# Altium schematic symbol library Nuvoton_Mini51DE Series.SchLib: 16 symbols
Pins are listed as number, name and electrical type; pins without a type are passive.

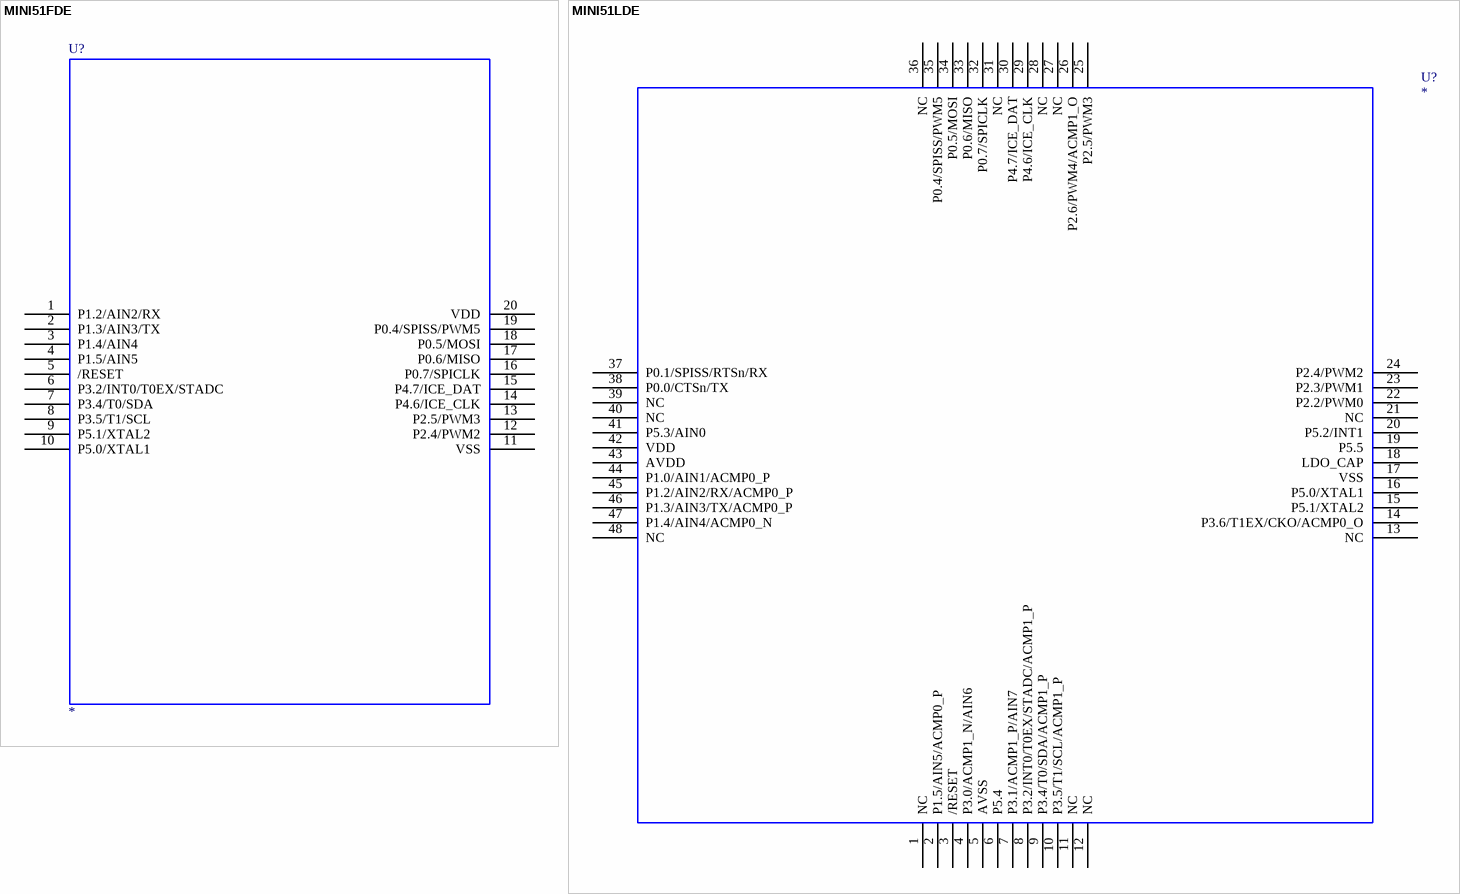
[diagram p0: symbols MINI51FDE to MINI51LDE]

## MINI51FDE
designator U?
MINI51FDE; OriginalSymbolOrigin: *; MINI51FDE: *; Value: *
footprint TSOP65P640X120-20N (TSOP, 20-Leads, Body 6.50x4.40mm, Pitch 0.65mm, IPC Medium Density)
footprint TSOP65P640X120-20M (TSOP, 20-Leads, Body 6.50x4.40mm, Pitch 0.65mm, IPC Low Density)
footprint TSOP65P640X120-20L (TSOP, 20-Leads, Body 6.50x4.40mm, Pitch 0.65mm, IPC High Density)
pins: 1 P1.2/AIN2/RX, 2 P1.3/AIN3/TX, 3 P1.4/AIN4, 4 P1.5/AIN5, 5 /RESET, 6 P3.2/INT0/T0EX/STADC, 7 P3.4/T0/SDA, 8 P3.5/T1/SCL, 9 P5.1/XTAL2, 10 P5.0/XTAL1, 11 VSS, 12 P2.4/PWM2, 13 P2.5/PWM3, 14 P4.6/ICE_CLK, 15 P4.7/ICE_DAT, 16 P0.7/SPICLK, 17 P0.6/MISO, 18 P0.5/MOSI, 19 P0.4/SPISS/PWM5, 20 VDD
2 alternate drawings of the same symbol

## MINI51LDE
designator U?
MINI51LDE; OriginalSymbolOrigin: *; MINI51LDE: *; Value: *
footprint TSQFP50P900X900X150-48N (TSQFP, 48-Leads, Body 7.00x7.00mm, Pitch 0.50mm, IPC Medium Density)
footprint TSQFP50P900X900X150-48M (TSQFP, 48-Leads, Body 7.00x7.00mm, Pitch 0.50mm, IPC Low Density)
footprint TSQFP50P900X900X150-48L (TSQFP, 48-Leads, Body 7.00x7.00mm, Pitch 0.50mm, IPC High Density)
pins: 1 NC, 2 P1.5/AIN5/ACMP0_P, 3 /RESET, 4 P3.0/ACMP1_N/AIN6, 5 AVSS, 6 P5.4, 7 P3.1/ACMP1_P/AIN7, 8 P3.2/INT0/T0EX/STADC/ACMP1_P, 9 P3.4/T0/SDA/ACMP1_P, 10 P3.5/T1/SCL/ACMP1_P, 11 NC, 12 NC, 13 NC, 14 P3.6/T1EX/CKO/ACMP0_O, 15 P5.1/XTAL2, 16 P5.0/XTAL1, 17 VSS, 18 LDO_CAP, 19 P5.5, 20 P5.2/INT1, 21 NC, 22 P2.2/PWM0, 23 P2.3/PWM1, 24 P2.4/PWM2, 25 P2.5/PWM3, 26 P2.6/PWM4/ACMP1_O, 27 NC, 28 NC, 29 P4.6/ICE_CLK, 30 P4.7/ICE_DAT, 31 NC, 32 P0.7/SPICLK, 33 P0.6/MISO, 34 P0.5/MOSI, 35 P0.4/SPISS/PWM5, 36 NC, 37 P0.1/SPISS/RTSn/RX, 38 P0.0/CTSn/TX, 39 NC, 40 NC, 41 P5.3/AIN0, 42 VDD, 43 AVDD, 44 P1.0/AIN1/ACMP0_P, 45 P1.2/AIN2/RX/ACMP0_P, 46 P1.3/AIN3/TX/ACMP0_P, 47 P1.4/AIN4/ACMP0_N, 48 NC
2 alternate drawings of the same symbol

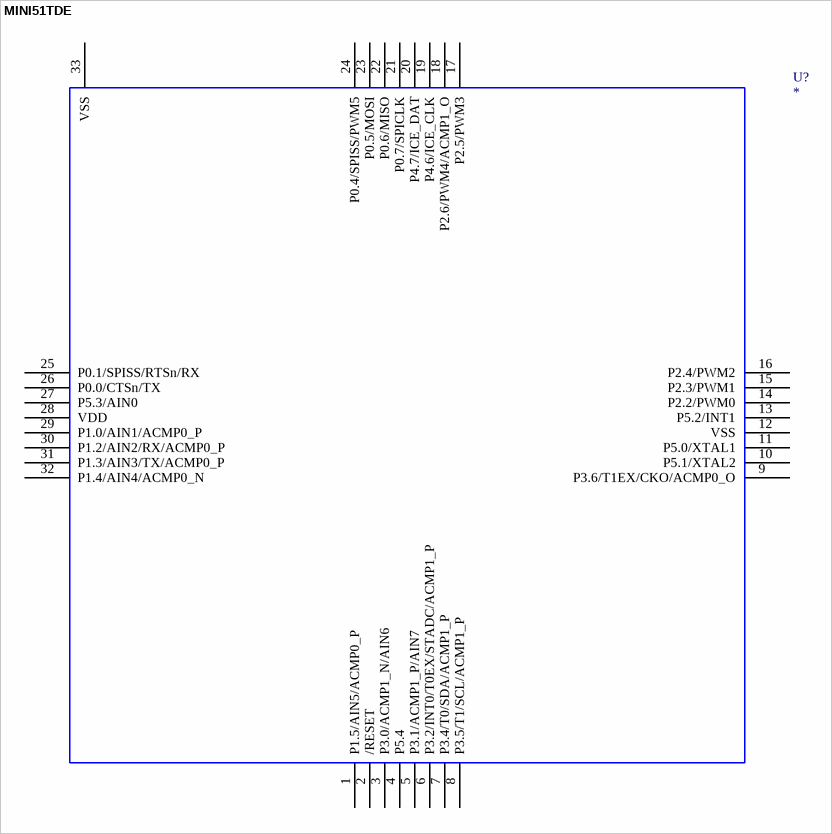
[diagram p1: symbol MINI51TDE]

## MINI51TDE
designator U?
MINI51TDE; OriginalSymbolOrigin: *; MINI51TDE: *; Value: *
footprint QFN40P400X400X80_HS-33N (QFN, 32-Leads, Body 4.00x4.00mm, Pitch 0.40mm, Thermal Pad 2.68x2.68mm, IPC Medium Density)
footprint QFN40P400X400X80_HS-33M (QFN, 32-Leads, Body 4.00x4.00mm, Pitch 0.40mm, Thermal Pad 2.68x2.68mm, IPC Low Density)
footprint QFN40P400X400X80_HS-33L (QFN, 32-Leads, Body 4.00x4.00mm, Pitch 0.40mm, Thermal Pad 2.68x2.68mm, IPC High Density)
pins: 1 P1.5/AIN5/ACMP0_P, 2 /RESET, 3 P3.0/ACMP1_N/AIN6, 4 P5.4, 5 P3.1/ACMP1_P/AIN7, 6 P3.2/INT0/T0EX/STADC/ACMP1_P, 7 P3.4/T0/SDA/ACMP1_P, 8 P3.5/T1/SCL/ACMP1_P, 9 P3.6/T1EX/CKO/ACMP0_O, 10 P5.1/XTAL2, 11 P5.0/XTAL1, 12 VSS, 13 P5.2/INT1, 14 P2.2/PWM0, 15 P2.3/PWM1, 16 P2.4/PWM2, 17 P2.5/PWM3, 18 P2.6/PWM4/ACMP1_O, 19 P4.6/ICE_CLK, 20 P4.7/ICE_DAT, 21 P0.7/SPICLK, 22 P0.6/MISO, 23 P0.5/MOSI, 24 P0.4/SPISS/PWM5, 25 P0.1/SPISS/RTSn/RX, 26 P0.0/CTSn/TX, 27 P5.3/AIN0, 28 VDD, 29 P1.0/AIN1/ACMP0_P, 30 P1.2/AIN2/RX/ACMP0_P, 31 P1.3/AIN3/TX/ACMP0_P, 32 P1.4/AIN4/ACMP0_N, 33 VSS
2 alternate drawings of the same symbol

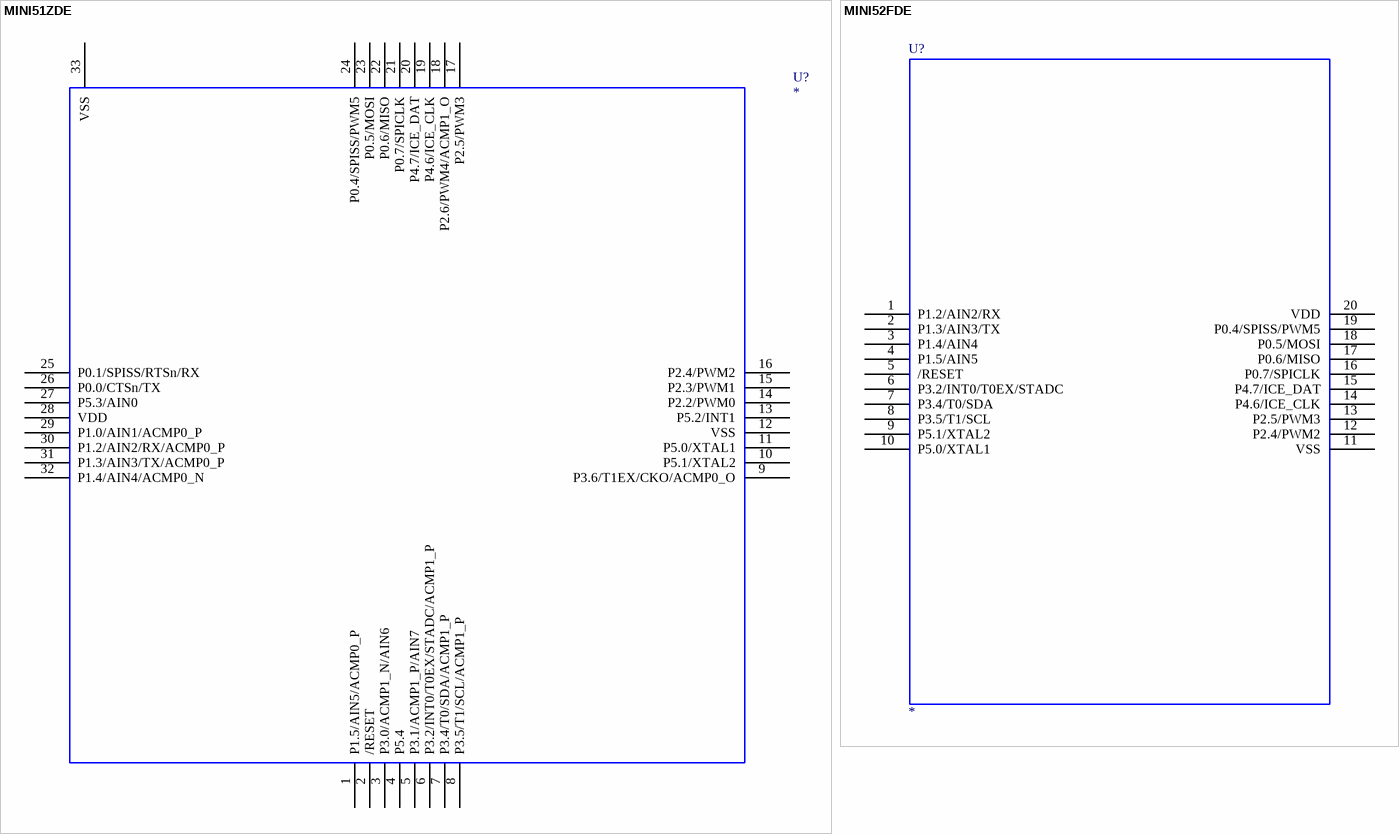
[diagram p2: symbols MINI51ZDE to MINI52FDE]

## MINI51ZDE
designator U?
MINI51ZDE; OriginalSymbolOrigin: *; MINI51ZDE: *; Value: *
footprint QFN50P500X500X80_HS-33N (QFN, 32-Leads, Body 5.00x5.00mm, Pitch 0.50mm, Thermal Pad 3.50x3.50mm, IPC Medium Density)
footprint QFN50P500X500X80_HS-33M (QFN, 32-Leads, Body 5.00x5.00mm, Pitch 0.50mm, Thermal Pad 3.50x3.50mm, IPC Low Density)
footprint QFN50P500X500X80_HS-33L (QFN, 32-Leads, Body 5.00x5.00mm, Pitch 0.50mm, Thermal Pad 3.50x3.50mm, IPC High Density)
pins: 1 P1.5/AIN5/ACMP0_P, 2 /RESET, 3 P3.0/ACMP1_N/AIN6, 4 P5.4, 5 P3.1/ACMP1_P/AIN7, 6 P3.2/INT0/T0EX/STADC/ACMP1_P, 7 P3.4/T0/SDA/ACMP1_P, 8 P3.5/T1/SCL/ACMP1_P, 9 P3.6/T1EX/CKO/ACMP0_O, 10 P5.1/XTAL2, 11 P5.0/XTAL1, 12 VSS, 13 P5.2/INT1, 14 P2.2/PWM0, 15 P2.3/PWM1, 16 P2.4/PWM2, 17 P2.5/PWM3, 18 P2.6/PWM4/ACMP1_O, 19 P4.6/ICE_CLK, 20 P4.7/ICE_DAT, 21 P0.7/SPICLK, 22 P0.6/MISO, 23 P0.5/MOSI, 24 P0.4/SPISS/PWM5, 25 P0.1/SPISS/RTSn/RX, 26 P0.0/CTSn/TX, 27 P5.3/AIN0, 28 VDD, 29 P1.0/AIN1/ACMP0_P, 30 P1.2/AIN2/RX/ACMP0_P, 31 P1.3/AIN3/TX/ACMP0_P, 32 P1.4/AIN4/ACMP0_N, 33 VSS
2 alternate drawings of the same symbol

## MINI52FDE
designator U?
MINI52FDE; OriginalSymbolOrigin: *; MINI52FDE: *; Value: *
footprint TSOP65P640X120-20N (TSOP, 20-Leads, Body 6.50x4.40mm, Pitch 0.65mm, IPC Medium Density)
footprint TSOP65P640X120-20M (TSOP, 20-Leads, Body 6.50x4.40mm, Pitch 0.65mm, IPC Low Density)
footprint TSOP65P640X120-20L (TSOP, 20-Leads, Body 6.50x4.40mm, Pitch 0.65mm, IPC High Density)
pins: 1 P1.2/AIN2/RX, 2 P1.3/AIN3/TX, 3 P1.4/AIN4, 4 P1.5/AIN5, 5 /RESET, 6 P3.2/INT0/T0EX/STADC, 7 P3.4/T0/SDA, 8 P3.5/T1/SCL, 9 P5.1/XTAL2, 10 P5.0/XTAL1, 11 VSS, 12 P2.4/PWM2, 13 P2.5/PWM3, 14 P4.6/ICE_CLK, 15 P4.7/ICE_DAT, 16 P0.7/SPICLK, 17 P0.6/MISO, 18 P0.5/MOSI, 19 P0.4/SPISS/PWM5, 20 VDD
2 alternate drawings of the same symbol

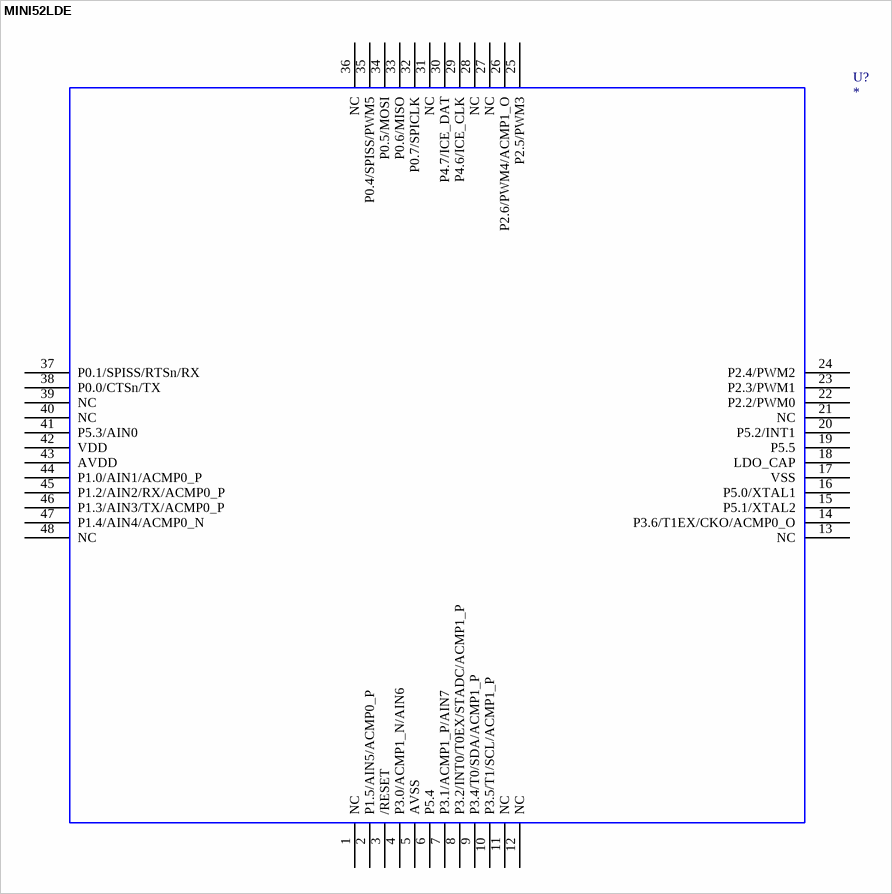
[diagram p3: symbol MINI52LDE]

## MINI52LDE
designator U?
MINI52LDE; OriginalSymbolOrigin: *; MINI52LDE: *; Value: *
footprint TSQFP50P900X900X150-48N (TSQFP, 48-Leads, Body 7.00x7.00mm, Pitch 0.50mm, IPC Medium Density)
footprint TSQFP50P900X900X150-48M (TSQFP, 48-Leads, Body 7.00x7.00mm, Pitch 0.50mm, IPC Low Density)
footprint TSQFP50P900X900X150-48L (TSQFP, 48-Leads, Body 7.00x7.00mm, Pitch 0.50mm, IPC High Density)
pins: 1 NC, 2 P1.5/AIN5/ACMP0_P, 3 /RESET, 4 P3.0/ACMP1_N/AIN6, 5 AVSS, 6 P5.4, 7 P3.1/ACMP1_P/AIN7, 8 P3.2/INT0/T0EX/STADC/ACMP1_P, 9 P3.4/T0/SDA/ACMP1_P, 10 P3.5/T1/SCL/ACMP1_P, 11 NC, 12 NC, 13 NC, 14 P3.6/T1EX/CKO/ACMP0_O, 15 P5.1/XTAL2, 16 P5.0/XTAL1, 17 VSS, 18 LDO_CAP, 19 P5.5, 20 P5.2/INT1, 21 NC, 22 P2.2/PWM0, 23 P2.3/PWM1, 24 P2.4/PWM2, 25 P2.5/PWM3, 26 P2.6/PWM4/ACMP1_O, 27 NC, 28 NC, 29 P4.6/ICE_CLK, 30 P4.7/ICE_DAT, 31 NC, 32 P0.7/SPICLK, 33 P0.6/MISO, 34 P0.5/MOSI, 35 P0.4/SPISS/PWM5, 36 NC, 37 P0.1/SPISS/RTSn/RX, 38 P0.0/CTSn/TX, 39 NC, 40 NC, 41 P5.3/AIN0, 42 VDD, 43 AVDD, 44 P1.0/AIN1/ACMP0_P, 45 P1.2/AIN2/RX/ACMP0_P, 46 P1.3/AIN3/TX/ACMP0_P, 47 P1.4/AIN4/ACMP0_N, 48 NC
2 alternate drawings of the same symbol

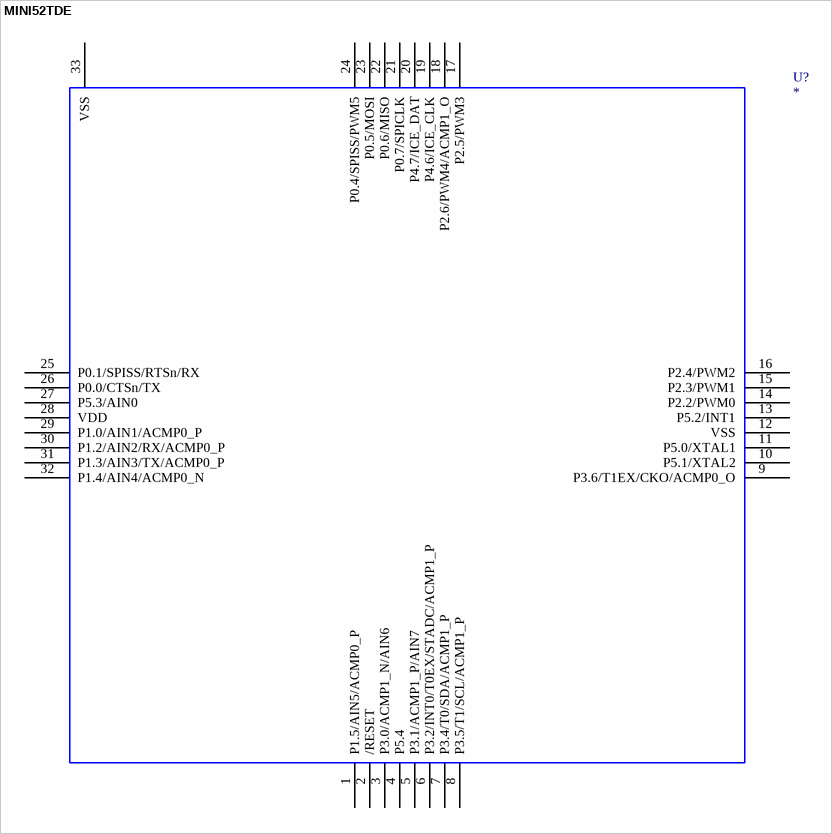
[diagram p4: symbol MINI52TDE]

## MINI52TDE
designator U?
MINI52TDE; OriginalSymbolOrigin: *; MINI52TDE: *; Value: *
footprint QFN40P400X400X80_HS-33N (QFN, 32-Leads, Body 4.00x4.00mm, Pitch 0.40mm, Thermal Pad 2.68x2.68mm, IPC Medium Density)
footprint QFN40P400X400X80_HS-33M (QFN, 32-Leads, Body 4.00x4.00mm, Pitch 0.40mm, Thermal Pad 2.68x2.68mm, IPC Low Density)
footprint QFN40P400X400X80_HS-33L (QFN, 32-Leads, Body 4.00x4.00mm, Pitch 0.40mm, Thermal Pad 2.68x2.68mm, IPC High Density)
pins: 1 P1.5/AIN5/ACMP0_P, 2 /RESET, 3 P3.0/ACMP1_N/AIN6, 4 P5.4, 5 P3.1/ACMP1_P/AIN7, 6 P3.2/INT0/T0EX/STADC/ACMP1_P, 7 P3.4/T0/SDA/ACMP1_P, 8 P3.5/T1/SCL/ACMP1_P, 9 P3.6/T1EX/CKO/ACMP0_O, 10 P5.1/XTAL2, 11 P5.0/XTAL1, 12 VSS, 13 P5.2/INT1, 14 P2.2/PWM0, 15 P2.3/PWM1, 16 P2.4/PWM2, 17 P2.5/PWM3, 18 P2.6/PWM4/ACMP1_O, 19 P4.6/ICE_CLK, 20 P4.7/ICE_DAT, 21 P0.7/SPICLK, 22 P0.6/MISO, 23 P0.5/MOSI, 24 P0.4/SPISS/PWM5, 25 P0.1/SPISS/RTSn/RX, 26 P0.0/CTSn/TX, 27 P5.3/AIN0, 28 VDD, 29 P1.0/AIN1/ACMP0_P, 30 P1.2/AIN2/RX/ACMP0_P, 31 P1.3/AIN3/TX/ACMP0_P, 32 P1.4/AIN4/ACMP0_N, 33 VSS
2 alternate drawings of the same symbol

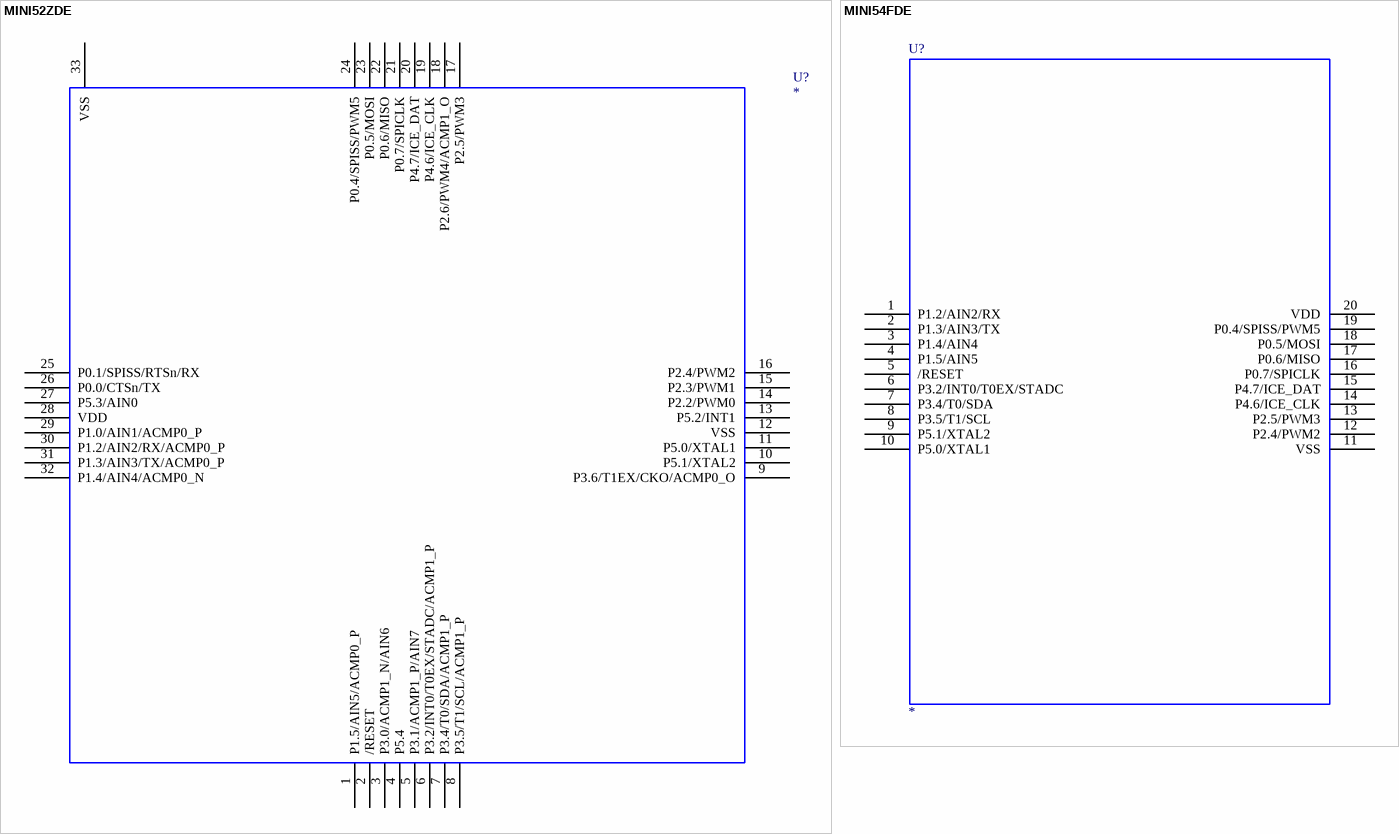
[diagram p5: symbols MINI52ZDE to MINI54FDE]

## MINI52ZDE
designator U?
MINI52ZDE; OriginalSymbolOrigin: *; MINI52ZDE: *; Value: *
footprint QFN50P500X500X80_HS-33N (QFN, 32-Leads, Body 5.00x5.00mm, Pitch 0.50mm, Thermal Pad 3.50x3.50mm, IPC Medium Density)
footprint QFN50P500X500X80_HS-33M (QFN, 32-Leads, Body 5.00x5.00mm, Pitch 0.50mm, Thermal Pad 3.50x3.50mm, IPC Low Density)
footprint QFN50P500X500X80_HS-33L (QFN, 32-Leads, Body 5.00x5.00mm, Pitch 0.50mm, Thermal Pad 3.50x3.50mm, IPC High Density)
pins: 1 P1.5/AIN5/ACMP0_P, 2 /RESET, 3 P3.0/ACMP1_N/AIN6, 4 P5.4, 5 P3.1/ACMP1_P/AIN7, 6 P3.2/INT0/T0EX/STADC/ACMP1_P, 7 P3.4/T0/SDA/ACMP1_P, 8 P3.5/T1/SCL/ACMP1_P, 9 P3.6/T1EX/CKO/ACMP0_O, 10 P5.1/XTAL2, 11 P5.0/XTAL1, 12 VSS, 13 P5.2/INT1, 14 P2.2/PWM0, 15 P2.3/PWM1, 16 P2.4/PWM2, 17 P2.5/PWM3, 18 P2.6/PWM4/ACMP1_O, 19 P4.6/ICE_CLK, 20 P4.7/ICE_DAT, 21 P0.7/SPICLK, 22 P0.6/MISO, 23 P0.5/MOSI, 24 P0.4/SPISS/PWM5, 25 P0.1/SPISS/RTSn/RX, 26 P0.0/CTSn/TX, 27 P5.3/AIN0, 28 VDD, 29 P1.0/AIN1/ACMP0_P, 30 P1.2/AIN2/RX/ACMP0_P, 31 P1.3/AIN3/TX/ACMP0_P, 32 P1.4/AIN4/ACMP0_N, 33 VSS
2 alternate drawings of the same symbol

## MINI54FDE
designator U?
MINI54FDE; OriginalSymbolOrigin: *; MINI54FDE: *; Value: *
footprint TSOP65P640X120-20N (TSOP, 20-Leads, Body 6.50x4.40mm, Pitch 0.65mm, IPC Medium Density)
footprint TSOP65P640X120-20M (TSOP, 20-Leads, Body 6.50x4.40mm, Pitch 0.65mm, IPC Low Density)
footprint TSOP65P640X120-20L (TSOP, 20-Leads, Body 6.50x4.40mm, Pitch 0.65mm, IPC High Density)
pins: 1 P1.2/AIN2/RX, 2 P1.3/AIN3/TX, 3 P1.4/AIN4, 4 P1.5/AIN5, 5 /RESET, 6 P3.2/INT0/T0EX/STADC, 7 P3.4/T0/SDA, 8 P3.5/T1/SCL, 9 P5.1/XTAL2, 10 P5.0/XTAL1, 11 VSS, 12 P2.4/PWM2, 13 P2.5/PWM3, 14 P4.6/ICE_CLK, 15 P4.7/ICE_DAT, 16 P0.7/SPICLK, 17 P0.6/MISO, 18 P0.5/MOSI, 19 P0.4/SPISS/PWM5, 20 VDD
2 alternate drawings of the same symbol

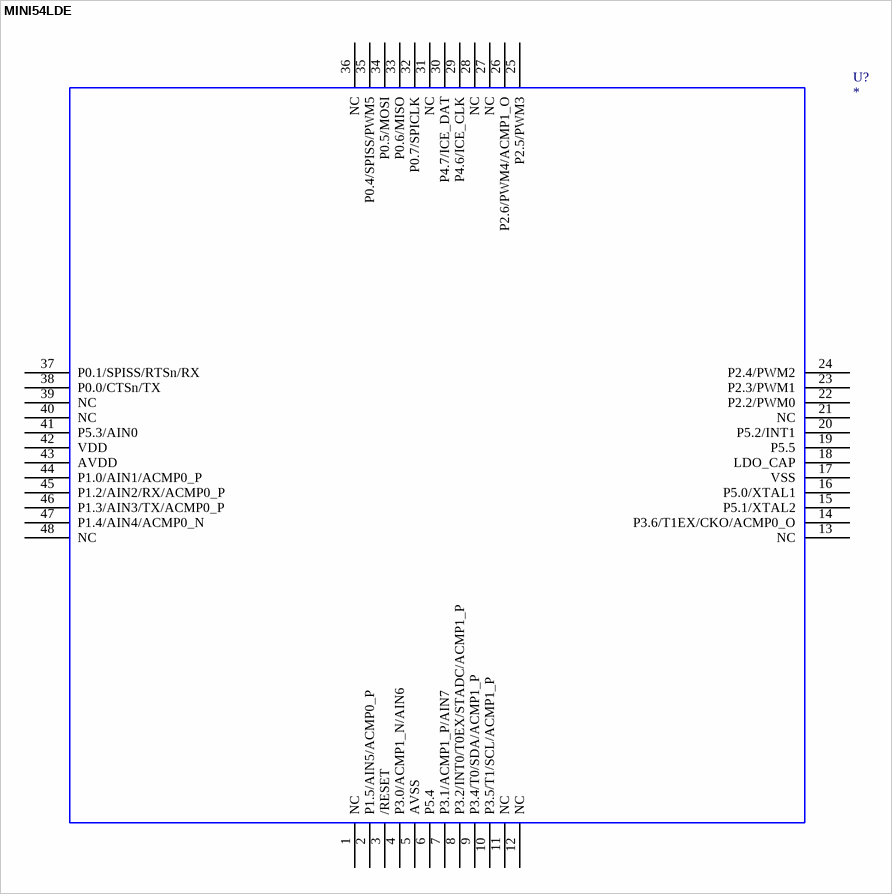
[diagram p6: symbol MINI54LDE]

## MINI54LDE
designator U?
MINI54LDE; OriginalSymbolOrigin: *; MINI54LDE: *; Value: *
footprint TSQFP50P900X900X150-48N (TSQFP, 48-Leads, Body 7.00x7.00mm, Pitch 0.50mm, IPC Medium Density)
footprint TSQFP50P900X900X150-48M (TSQFP, 48-Leads, Body 7.00x7.00mm, Pitch 0.50mm, IPC Low Density)
footprint TSQFP50P900X900X150-48L (TSQFP, 48-Leads, Body 7.00x7.00mm, Pitch 0.50mm, IPC High Density)
pins: 1 NC, 2 P1.5/AIN5/ACMP0_P, 3 /RESET, 4 P3.0/ACMP1_N/AIN6, 5 AVSS, 6 P5.4, 7 P3.1/ACMP1_P/AIN7, 8 P3.2/INT0/T0EX/STADC/ACMP1_P, 9 P3.4/T0/SDA/ACMP1_P, 10 P3.5/T1/SCL/ACMP1_P, 11 NC, 12 NC, 13 NC, 14 P3.6/T1EX/CKO/ACMP0_O, 15 P5.1/XTAL2, 16 P5.0/XTAL1, 17 VSS, 18 LDO_CAP, 19 P5.5, 20 P5.2/INT1, 21 NC, 22 P2.2/PWM0, 23 P2.3/PWM1, 24 P2.4/PWM2, 25 P2.5/PWM3, 26 P2.6/PWM4/ACMP1_O, 27 NC, 28 NC, 29 P4.6/ICE_CLK, 30 P4.7/ICE_DAT, 31 NC, 32 P0.7/SPICLK, 33 P0.6/MISO, 34 P0.5/MOSI, 35 P0.4/SPISS/PWM5, 36 NC, 37 P0.1/SPISS/RTSn/RX, 38 P0.0/CTSn/TX, 39 NC, 40 NC, 41 P5.3/AIN0, 42 VDD, 43 AVDD, 44 P1.0/AIN1/ACMP0_P, 45 P1.2/AIN2/RX/ACMP0_P, 46 P1.3/AIN3/TX/ACMP0_P, 47 P1.4/AIN4/ACMP0_N, 48 NC
2 alternate drawings of the same symbol

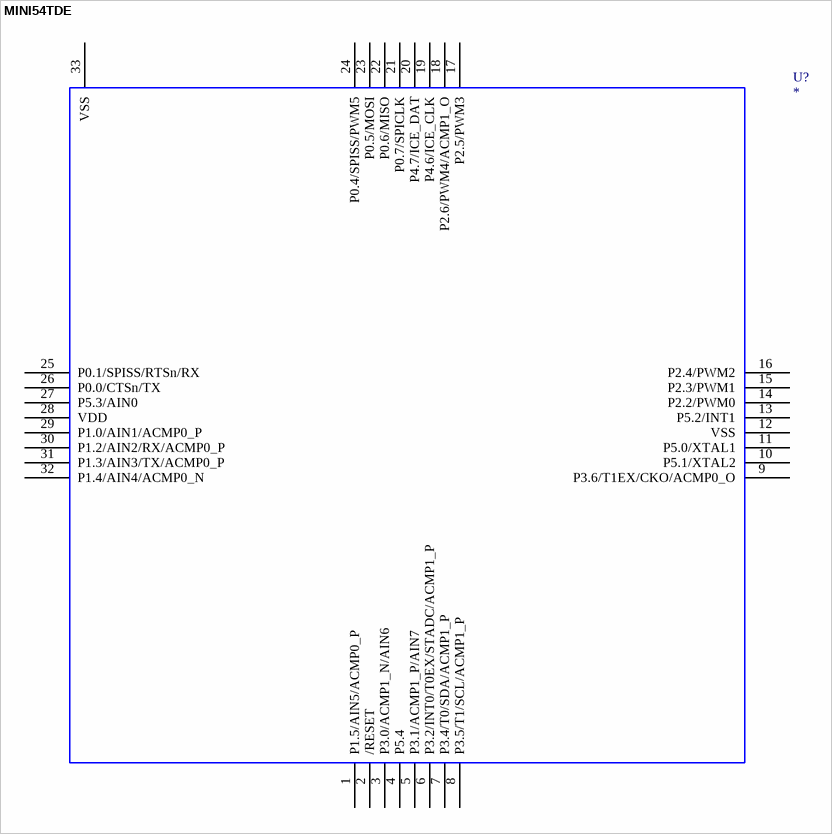
[diagram p7: symbol MINI54TDE]

## MINI54TDE
designator U?
MINI54TDE; OriginalSymbolOrigin: *; MINI54TDE: *; Value: *
footprint QFN40P400X400X80_HS-33N (QFN, 32-Leads, Body 4.00x4.00mm, Pitch 0.40mm, Thermal Pad 2.68x2.68mm, IPC Medium Density)
footprint QFN40P400X400X80_HS-33M (QFN, 32-Leads, Body 4.00x4.00mm, Pitch 0.40mm, Thermal Pad 2.68x2.68mm, IPC Low Density)
footprint QFN40P400X400X80_HS-33L (QFN, 32-Leads, Body 4.00x4.00mm, Pitch 0.40mm, Thermal Pad 2.68x2.68mm, IPC High Density)
pins: 1 P1.5/AIN5/ACMP0_P, 2 /RESET, 3 P3.0/ACMP1_N/AIN6, 4 P5.4, 5 P3.1/ACMP1_P/AIN7, 6 P3.2/INT0/T0EX/STADC/ACMP1_P, 7 P3.4/T0/SDA/ACMP1_P, 8 P3.5/T1/SCL/ACMP1_P, 9 P3.6/T1EX/CKO/ACMP0_O, 10 P5.1/XTAL2, 11 P5.0/XTAL1, 12 VSS, 13 P5.2/INT1, 14 P2.2/PWM0, 15 P2.3/PWM1, 16 P2.4/PWM2, 17 P2.5/PWM3, 18 P2.6/PWM4/ACMP1_O, 19 P4.6/ICE_CLK, 20 P4.7/ICE_DAT, 21 P0.7/SPICLK, 22 P0.6/MISO, 23 P0.5/MOSI, 24 P0.4/SPISS/PWM5, 25 P0.1/SPISS/RTSn/RX, 26 P0.0/CTSn/TX, 27 P5.3/AIN0, 28 VDD, 29 P1.0/AIN1/ACMP0_P, 30 P1.2/AIN2/RX/ACMP0_P, 31 P1.3/AIN3/TX/ACMP0_P, 32 P1.4/AIN4/ACMP0_N, 33 VSS
2 alternate drawings of the same symbol

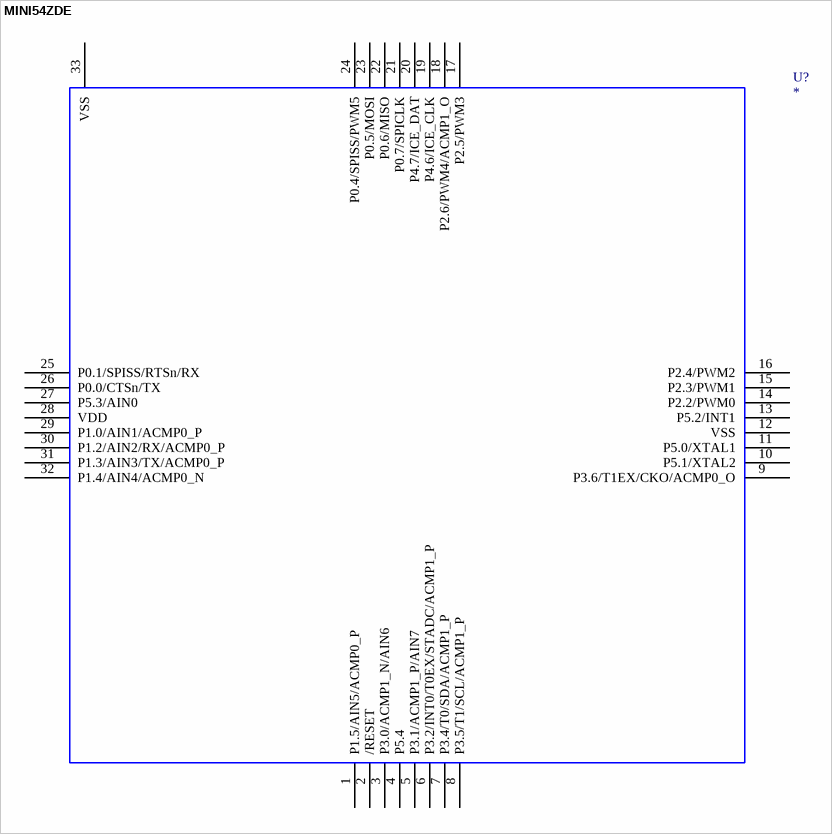
[diagram p8: symbol MINI54ZDE]

## MINI54ZDE
designator U?
MINI54ZDE; OriginalSymbolOrigin: *; MINI54ZDE: *; Value: *
footprint QFN50P500X500X80_HS-33N (QFN, 32-Leads, Body 5.00x5.00mm, Pitch 0.50mm, Thermal Pad 3.50x3.50mm, IPC Medium Density)
footprint QFN50P500X500X80_HS-33M (QFN, 32-Leads, Body 5.00x5.00mm, Pitch 0.50mm, Thermal Pad 3.50x3.50mm, IPC Low Density)
footprint QFN50P500X500X80_HS-33L (QFN, 32-Leads, Body 5.00x5.00mm, Pitch 0.50mm, Thermal Pad 3.50x3.50mm, IPC High Density)
pins: 1 P1.5/AIN5/ACMP0_P, 2 /RESET, 3 P3.0/ACMP1_N/AIN6, 4 P5.4, 5 P3.1/ACMP1_P/AIN7, 6 P3.2/INT0/T0EX/STADC/ACMP1_P, 7 P3.4/T0/SDA/ACMP1_P, 8 P3.5/T1/SCL/ACMP1_P, 9 P3.6/T1EX/CKO/ACMP0_O, 10 P5.1/XTAL2, 11 P5.0/XTAL1, 12 VSS, 13 P5.2/INT1, 14 P2.2/PWM0, 15 P2.3/PWM1, 16 P2.4/PWM2, 17 P2.5/PWM3, 18 P2.6/PWM4/ACMP1_O, 19 P4.6/ICE_CLK, 20 P4.7/ICE_DAT, 21 P0.7/SPICLK, 22 P0.6/MISO, 23 P0.5/MOSI, 24 P0.4/SPISS/PWM5, 25 P0.1/SPISS/RTSn/RX, 26 P0.0/CTSn/TX, 27 P5.3/AIN0, 28 VDD, 29 P1.0/AIN1/ACMP0_P, 30 P1.2/AIN2/RX/ACMP0_P, 31 P1.3/AIN3/TX/ACMP0_P, 32 P1.4/AIN4/ACMP0_N, 33 VSS
2 alternate drawings of the same symbol

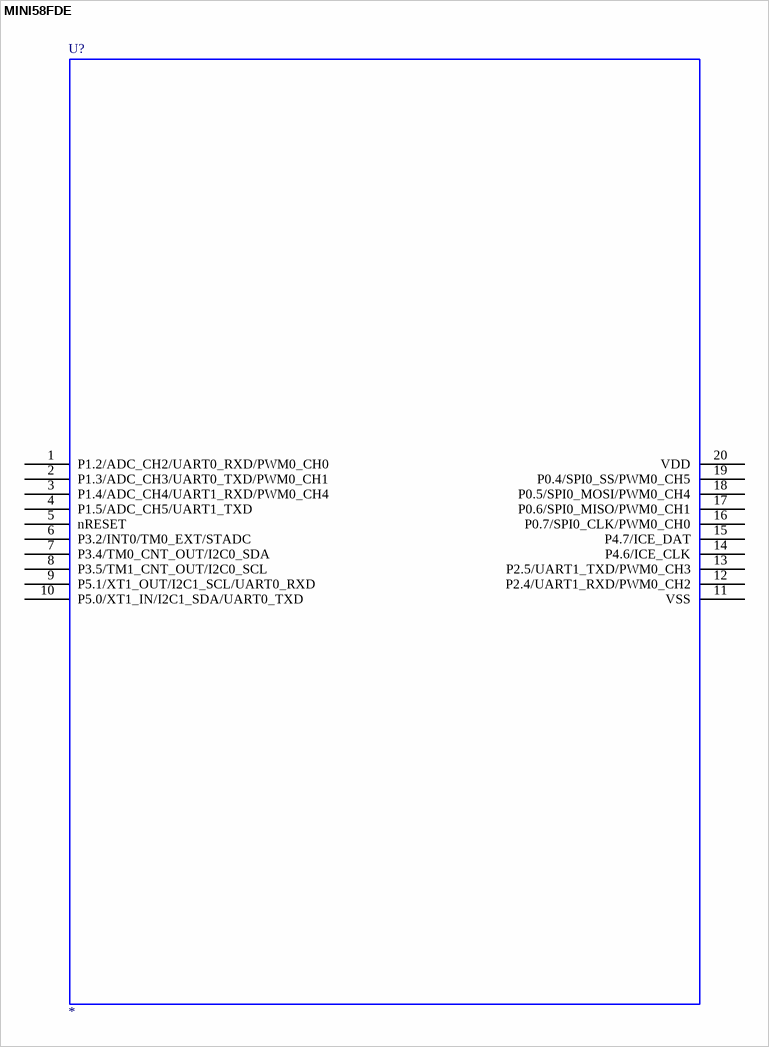
[diagram p9: symbol MINI58FDE]

## MINI58FDE
designator U?
MINI58FDE; OriginalSymbolOrigin: *; MINI58FDE: *; Value: *
footprint TSOP65P640X120-20N (TSOP, 20-Leads, Body 6.50x4.40mm, Pitch 0.65mm, IPC Medium Density)
footprint TSOP65P640X120-20M (TSOP, 20-Leads, Body 6.50x4.40mm, Pitch 0.65mm, IPC Low Density)
footprint TSOP65P640X120-20L (TSOP, 20-Leads, Body 6.50x4.40mm, Pitch 0.65mm, IPC High Density)
pins: 1 P1.2/ADC_CH2/UART0_RXD/PWM0_CH0, 2 P1.3/ADC_CH3/UART0_TXD/PWM0_CH1, 3 P1.4/ADC_CH4/UART1_RXD/PWM0_CH4, 4 P1.5/ADC_CH5/UART1_TXD, 5 nRESET, 6 P3.2/INT0/TM0_EXT/STADC, 7 P3.4/TM0_CNT_OUT/I2C0_SDA, 8 P3.5/TM1_CNT_OUT/I2C0_SCL, 9 P5.1/XT1_OUT/I2C1_SCL/UART0_RXD, 10 P5.0/XT1_IN/I2C1_SDA/UART0_TXD, 11 VSS, 12 P2.4/UART1_RXD/PWM0_CH2, 13 P2.5/UART1_TXD/PWM0_CH3, 14 P4.6/ICE_CLK, 15 P4.7/ICE_DAT, 16 P0.7/SPI0_CLK/PWM0_CH0, 17 P0.6/SPI0_MISO/PWM0_CH1, 18 P0.5/SPI0_MOSI/PWM0_CH4, 19 P0.4/SPI0_SS/PWM0_CH5, 20 VDD
2 alternate drawings of the same symbol

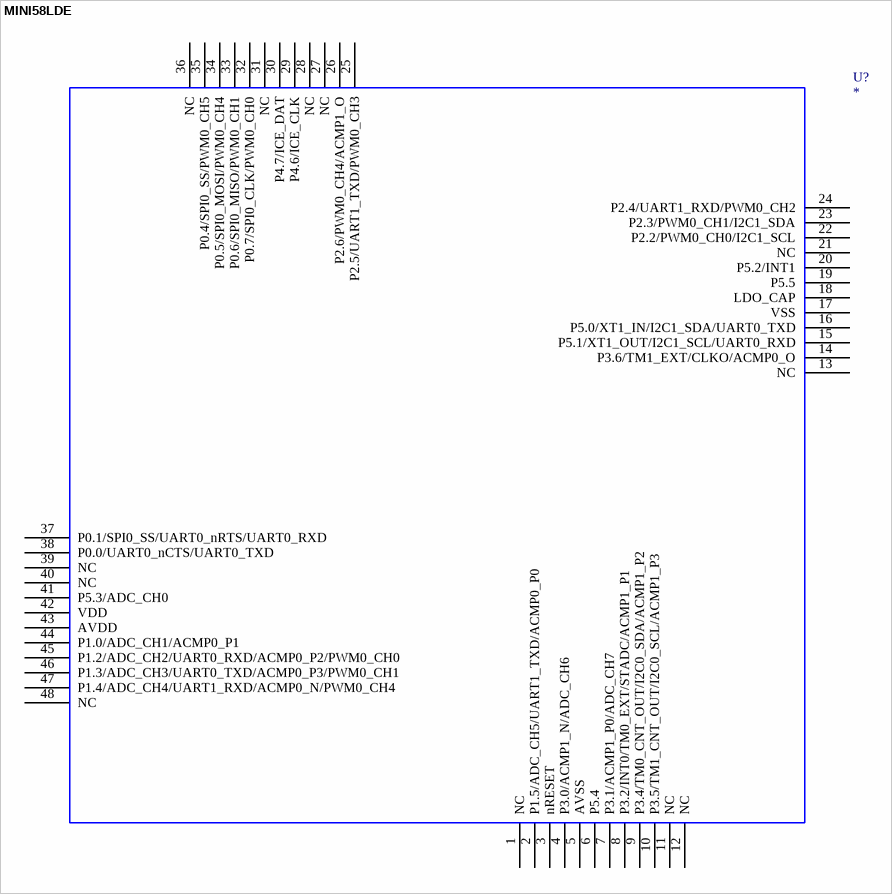
[diagram p10: symbol MINI58LDE]

## MINI58LDE
designator U?
MINI58LDE; OriginalSymbolOrigin: *; MINI58LDE: *; Value: *
footprint TSQFP50P900X900X150-48N (TSQFP, 48-Leads, Body 7.00x7.00mm, Pitch 0.50mm, IPC Medium Density)
footprint TSQFP50P900X900X150-48M (TSQFP, 48-Leads, Body 7.00x7.00mm, Pitch 0.50mm, IPC Low Density)
footprint TSQFP50P900X900X150-48L (TSQFP, 48-Leads, Body 7.00x7.00mm, Pitch 0.50mm, IPC High Density)
pins: 1 NC, 2 P1.5/ADC_CH5/UART1_TXD/ACMP0_P0, 3 nRESET, 4 P3.0/ACMP1_N/ADC_CH6, 5 AVSS, 6 P5.4, 7 P3.1/ACMP1_P0/ADC_CH7, 8 P3.2/INT0/TM0_EXT/STADC/ACMP1_P1, 9 P3.4/TM0_CNT_OUT/I2C0_SDA/ACMP1_P2, 10 P3.5/TM1_CNT_OUT/I2C0_SCL/ACMP1_P3, 11 NC, 12 NC, 13 NC, 14 P3.6/TM1_EXT/CLKO/ACMP0_O, 15 P5.1/XT1_OUT/I2C1_SCL/UART0_RXD, 16 P5.0/XT1_IN/I2C1_SDA/UART0_TXD, 17 VSS, 18 LDO_CAP, 19 P5.5, 20 P5.2/INT1, 21 NC, 22 P2.2/PWM0_CH0/I2C1_SCL, 23 P2.3/PWM0_CH1/I2C1_SDA, 24 P2.4/UART1_RXD/PWM0_CH2, 25 P2.5/UART1_TXD/PWM0_CH3, 26 P2.6/PWM0_CH4/ACMP1_O, 27 NC, 28 NC, 29 P4.6/ICE_CLK, 30 P4.7/ICE_DAT, 31 NC, 32 P0.7/SPI0_CLK/PWM0_CH0, 33 P0.6/SPI0_MISO/PWM0_CH1, 34 P0.5/SPI0_MOSI/PWM0_CH4, 35 P0.4/SPI0_SS/PWM0_CH5, 36 NC, 37 P0.1/SPI0_SS/UART0_nRTS/UART0_RXD, 38 P0.0/UART0_nCTS/UART0_TXD, 39 NC, 40 NC, 41 P5.3/ADC_CH0, 42 VDD, 43 AVDD, 44 P1.0/ADC_CH1/ACMP0_P1, 45 P1.2/ADC_CH2/UART0_RXD/ACMP0_P2/PWM0_CH0, 46 P1.3/ADC_CH3/UART0_TXD/ACMP0_P3/PWM0_CH1, 47 P1.4/ADC_CH4/UART1_RXD/ACMP0_N/PWM0_CH4, 48 NC
2 alternate drawings of the same symbol

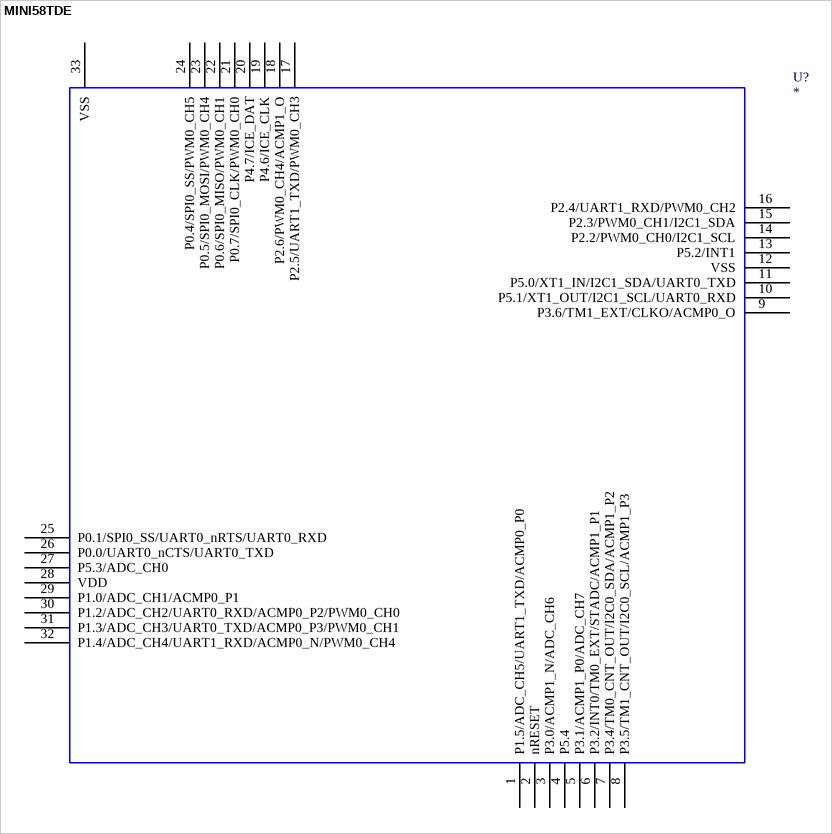
[diagram p11: symbol MINI58TDE]

## MINI58TDE
designator U?
MINI58TDE; OriginalSymbolOrigin: *; MINI58TDE: *; Value: *
footprint QFN40P400X400X80_HS-33N (QFN, 32-Leads, Body 4.00x4.00mm, Pitch 0.40mm, Thermal Pad 2.68x2.68mm, IPC Medium Density)
footprint QFN40P400X400X80_HS-33M (QFN, 32-Leads, Body 4.00x4.00mm, Pitch 0.40mm, Thermal Pad 2.68x2.68mm, IPC Low Density)
footprint QFN40P400X400X80_HS-33L (QFN, 32-Leads, Body 4.00x4.00mm, Pitch 0.40mm, Thermal Pad 2.68x2.68mm, IPC High Density)
pins: 1 P1.5/ADC_CH5/UART1_TXD/ACMP0_P0, 2 nRESET, 3 P3.0/ACMP1_N/ADC_CH6, 4 P5.4, 5 P3.1/ACMP1_P0/ADC_CH7, 6 P3.2/INT0/TM0_EXT/STADC/ACMP1_P1, 7 P3.4/TM0_CNT_OUT/I2C0_SDA/ACMP1_P2, 8 P3.5/TM1_CNT_OUT/I2C0_SCL/ACMP1_P3, 9 P3.6/TM1_EXT/CLKO/ACMP0_O, 10 P5.1/XT1_OUT/I2C1_SCL/UART0_RXD, 11 P5.0/XT1_IN/I2C1_SDA/UART0_TXD, 12 VSS, 13 P5.2/INT1, 14 P2.2/PWM0_CH0/I2C1_SCL, 15 P2.3/PWM0_CH1/I2C1_SDA, 16 P2.4/UART1_RXD/PWM0_CH2, 17 P2.5/UART1_TXD/PWM0_CH3, 18 P2.6/PWM0_CH4/ACMP1_O, 19 P4.6/ICE_CLK, 20 P4.7/ICE_DAT, 21 P0.7/SPI0_CLK/PWM0_CH0, 22 P0.6/SPI0_MISO/PWM0_CH1, 23 P0.5/SPI0_MOSI/PWM0_CH4, 24 P0.4/SPI0_SS/PWM0_CH5, 25 P0.1/SPI0_SS/UART0_nRTS/UART0_RXD, 26 P0.0/UART0_nCTS/UART0_TXD, 27 P5.3/ADC_CH0, 28 VDD, 29 P1.0/ADC_CH1/ACMP0_P1, 30 P1.2/ADC_CH2/UART0_RXD/ACMP0_P2/PWM0_CH0, 31 P1.3/ADC_CH3/UART0_TXD/ACMP0_P3/PWM0_CH1, 32 P1.4/ADC_CH4/UART1_RXD/ACMP0_N/PWM0_CH4, 33 VSS
2 alternate drawings of the same symbol

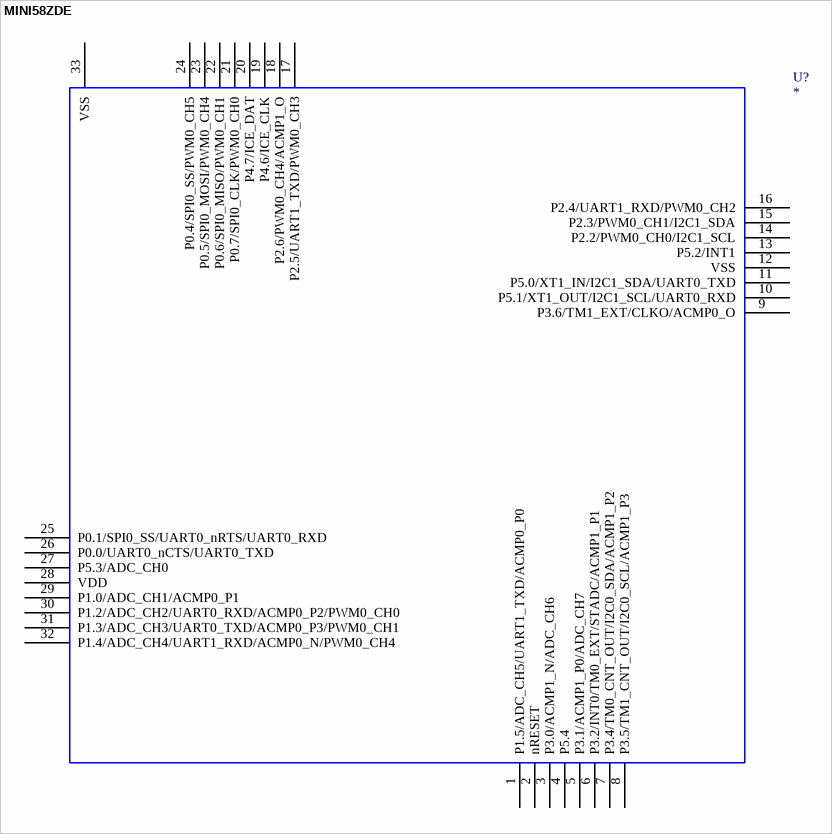
[diagram p12: symbol MINI58ZDE]

## MINI58ZDE
designator U?
MINI58ZDE; OriginalSymbolOrigin: *; MINI58ZDE: *; Value: *
footprint QFN50P500X500X80_HS-33N (QFN, 32-Leads, Body 5.00x5.00mm, Pitch 0.50mm, Thermal Pad 3.50x3.50mm, IPC Medium Density)
footprint QFN50P500X500X80_HS-33M (QFN, 32-Leads, Body 5.00x5.00mm, Pitch 0.50mm, Thermal Pad 3.50x3.50mm, IPC Low Density)
footprint QFN50P500X500X80_HS-33L (QFN, 32-Leads, Body 5.00x5.00mm, Pitch 0.50mm, Thermal Pad 3.50x3.50mm, IPC High Density)
pins: 1 P1.5/ADC_CH5/UART1_TXD/ACMP0_P0, 2 nRESET, 3 P3.0/ACMP1_N/ADC_CH6, 4 P5.4, 5 P3.1/ACMP1_P0/ADC_CH7, 6 P3.2/INT0/TM0_EXT/STADC/ACMP1_P1, 7 P3.4/TM0_CNT_OUT/I2C0_SDA/ACMP1_P2, 8 P3.5/TM1_CNT_OUT/I2C0_SCL/ACMP1_P3, 9 P3.6/TM1_EXT/CLKO/ACMP0_O, 10 P5.1/XT1_OUT/I2C1_SCL/UART0_RXD, 11 P5.0/XT1_IN/I2C1_SDA/UART0_TXD, 12 VSS, 13 P5.2/INT1, 14 P2.2/PWM0_CH0/I2C1_SCL, 15 P2.3/PWM0_CH1/I2C1_SDA, 16 P2.4/UART1_RXD/PWM0_CH2, 17 P2.5/UART1_TXD/PWM0_CH3, 18 P2.6/PWM0_CH4/ACMP1_O, 19 P4.6/ICE_CLK, 20 P4.7/ICE_DAT, 21 P0.7/SPI0_CLK/PWM0_CH0, 22 P0.6/SPI0_MISO/PWM0_CH1, 23 P0.5/SPI0_MOSI/PWM0_CH4, 24 P0.4/SPI0_SS/PWM0_CH5, 25 P0.1/SPI0_SS/UART0_nRTS/UART0_RXD, 26 P0.0/UART0_nCTS/UART0_TXD, 27 P5.3/ADC_CH0, 28 VDD, 29 P1.0/ADC_CH1/ACMP0_P1, 30 P1.2/ADC_CH2/UART0_RXD/ACMP0_P2/PWM0_CH0, 31 P1.3/ADC_CH3/UART0_TXD/ACMP0_P3/PWM0_CH1, 32 P1.4/ADC_CH4/UART1_RXD/ACMP0_N/PWM0_CH4, 33 VSS
2 alternate drawings of the same symbol